# Altium schematic symbol library TI.SchLib: 6 symbols
Pins are listed as number, name and electrical type; pins without a type are passive.

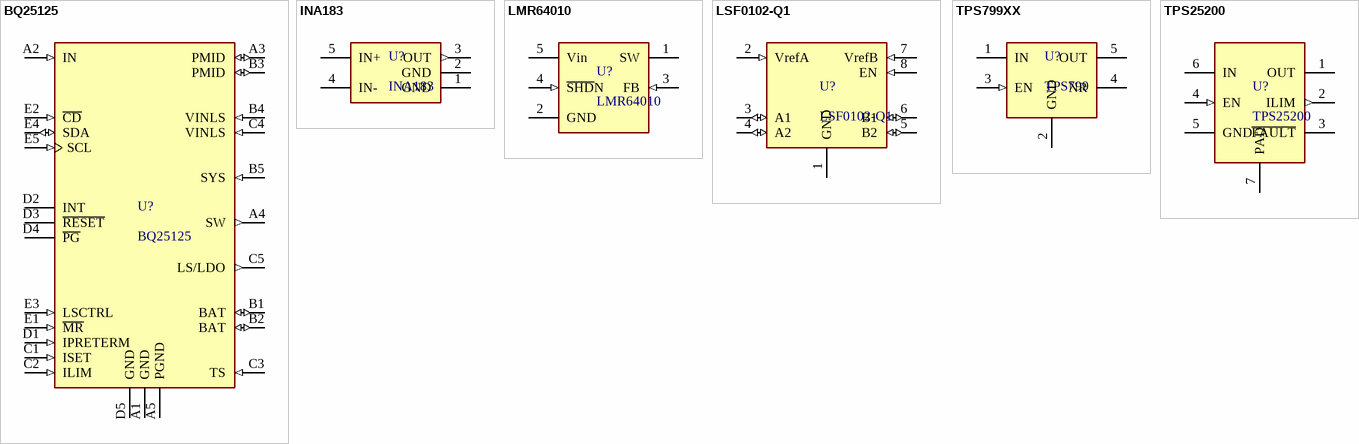
[diagram p0: symbols BQ25125 to TPS25200]

## BQ25125
designator U?
BQ25125 Low IQ Highly Integrated Battery Charge Management Solution For Wearables and IoT; Manufacturer: TI; Part Number: BQ25125; Value: BQ25125; Device Package: *; Mounting Type: SMT; Operating Temperature: *; Package / Case: *; Size / Dimension: *; Thickness (Max): *; Distributor link 1: https://www.digikey.com/en/products/detail/texas-instruments/BQ25125YFPR/10273214; Distributor link 2: *; Distributor link 3: *; Link: https://www.ti.com/product/BQ25125
footprint BQ25125-DSBGA25 (25-Pin DSBGA footprint for BQ25125)
pins: A1 GND (power), A2 IN (in), A3 PMID (io), A4 SW (out), A5 PGND (power), B1 BAT (io), B2 BAT (io), B3 PMID (io), B4 VINLS (in), B5 SYS (in), C1 ISET (in), C2 ILIM (in), C3 TS (in), C4 VINLS (in), C5 LS/LDO (out), D1 IPRETERM (in), D2 INT, D3 ~{RESET}, D4 ~{PG}, D5 GND (power), E1 ~{MR} (in), E2 ~{CD} (in), E3 LSCTRL (in), E4 SDA (io), E5 SCL (in)

## INA183
designator U?
INA183 2.7-V to 26-V, High-Precision Current Sense Amplifier; Manufacturer: TI; Part Number: INA183; Value: INA183; Device Package: SOT23-5; Mounting Type: SMT; Operating Temperature: *; Package / Case: *; Size / Dimension: *; Thickness (Max): *; Distributor link 1: https://www.digikey.com.au/product-detail/en/texas-instruments/INA183A1IDBVR/296-INA183A1IDBVRTR-ND/13896392; Distributor link 2: *; Distributor link 3: *; Link: https://www.ti.com/product/INA183
footprint SO23-5 (SOT23-5 (DBV0005A))
pins: 1 GND (power), 2 GND (power), 3 OUT (out), 4 IN-, 5 IN+

## LMR64010
designator U?
LMR64010 SIMPLE SWITCHER 40Vout, 1A Step-Up Voltage Regulator in SOT-23; Part Number: LMR64010XMF; Manufacturer: TI; Value: LMR64010; Device Package: SOT23-5; Mounting Type: SMT; Operating Temperature: *; Package / Case: *; Size / Dimension: *; Thickness (Max): *; Distributor link 1: https://www.digikey.com/en/products/detail/LMR64010XMFX%2fNOPB/296-38771-1-ND/5125873; Distributor link 2: *; Distributor link 3: *; Link: https://www.ti.com/product/LMR64010
footprint SO23-5 (SOT23-5 (DBV0005A))
pins: 1 SW, 2 GND (power), 3 FB (in), 4 ~{SHD}N (in), 5 Vin (power)

## LSF0102-Q1
designator U?
Automotive 2-Channel Auto Bidirectional Multi-Voltage Level Translator; Part Number: LSF0102QDCURQ1; Manufacturer: TI; Value: LSF0102-Q1; Device Package: 8-VSSOP; Mounting Type: SMT; Operating Temperature: -40°C ~ 125°C; Package / Case: 8-VFSOP (0.091"", 2.30mm Width); Size / Dimension: *; Thickness (Max): *; Distributor link 1: https://www.digikey.com/en/products/detail/texas-instruments/LSF0102QDCURQ1/9343347?s=N4IgTCBcDaIDIGUBiAGAjCsBFAIgYQFUAlLNEAXQF8g; Distributor link 2: *; Distributor link 3: *; Link: https://www.ti.com/product/LSF0102-Q1
footprint 8-VSSOP
pins: 1 GND (power), 2 VrefA (in), 3 A1 (io), 4 A2 (io), 5 B2 (io), 6 B1 (io), 7 VrefB (in), 8 EN (in)

## TPS799XX
designator U?, comment TPS799
TPS799 200-mA, Low-Quiescent Current, Ultralow Noise, High-PSRR Low-Dropout Linear / Regulator; Manufacturer: TI; Part Number: *; Value: TPS799; Device Package: *; Mounting Type: SMT; Operating Temperature: *; Package / Case: *; Size / Dimension: *; Thickness (Max): *; Distributor link 1: *; Distributor link 2: *; Distributor link 3: *; Link: https://www.ti.com/product/TPS799
footprint SO23-5 (SOT23-5 (DBV0005A))
pins: 1 IN (power), 2 GND (power), 3 EN (in), 4 NR, 5 OUT (power)

## TPS25200
designator U?
TPS25200 5-V eFuse With Precision Adjustable Current Limit and Overvoltage Clamp; Manufacturer: TI; Part Number: TPS25200; Value: TPS25200; Device Package: WSON6; Mounting Type: SMT; Operating Temperature: *; Package / Case: *; Size / Dimension: *; Thickness (Max): *; Distributor link 1: https://www.digikey.com/en/products/detail/texas-instruments/TPS25200DRVT/4840667; Distributor link 2: *; Distributor link 3: *; Link: https://www.ti.com/product/TPS25200
footprint WSON6 (WSON6 with exposed pad)
pins: 1 OUT (power), 2 ILIM (out), 3 ~{FAULT}, 4 EN (in), 5 GND (power), 6 IN (power), 7 PAD (power)